# Altium schematic symbol library rs485.SchLib: 1 symbol
Pins are listed as number, name and electrical type; pins without a type are passive.

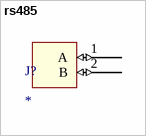
[diagram p0: symbol rs485]

## rs485
designator J?
footprint 2pin
pins: 1 A (io), 2 B (io)